# Altium schematic symbol library Transistors.SchLib: 4 symbols
Pins are listed as number, name and electrical type; pins without a type are passive.

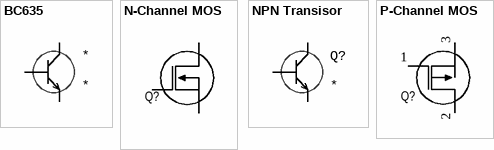
[diagram p0: symbols BC635 to P-Channel MOS]

## BC635
designator *
footprint TO-92 (Classic TO-92 0.1 inch (2.54 mm))
pins: 1 E, 2 C, 3 B

## N-Channel MOS
designator Q?
Package: SOT-23; Vgth: *; Vds: *
footprint TO220 Heatsink_15x10x20
footprint TO220
footprint TO-92 (Classic TO-92 0.1 inch (2.54 mm))
footprint SOT23-5
footprint SOT-223
footprint SOT353-5
footprint SOT25-5
footprint SOT23
pins: 1 G, 2 D, 3 S

## NPN Transisor
designator Q?
Common model of bipolar NPN
footprint TO-92 (Classic TO-92 0.1 inch (2.54 mm))
footprint sot23
pins: 1 E, 2 C, 3 B

## P-Channel MOS
designator Q?, comment transistor  (value not drawn)
Package: SOT-23; Vgth: *; Vds: *
footprint SOT23
pins: 1 G, 2 D, 3 S